# EAGLE library part ARDUINOPROMINI5V328 (library arduino)
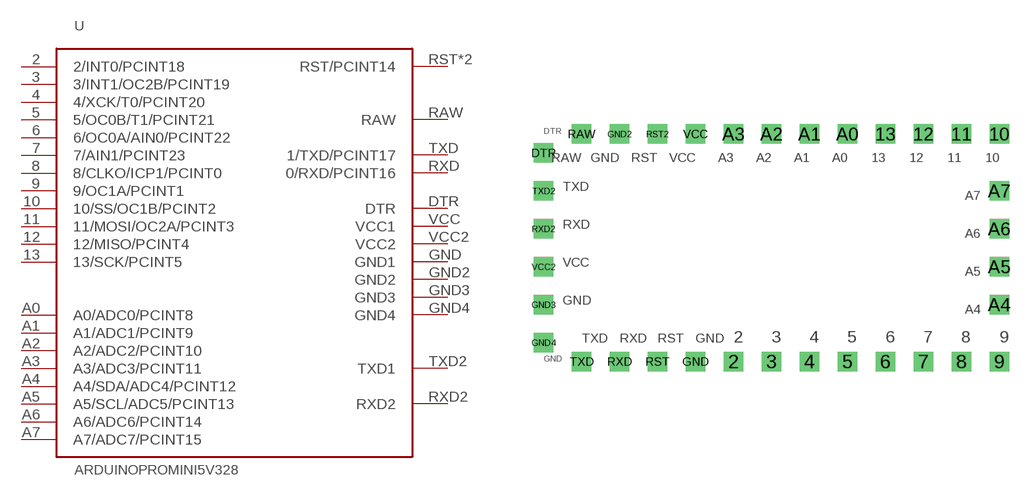
[diagram p1: symbol with the pads of ARDUINOMINIPRO5V328; footprint ARDUINOMINIPRO5V328]

Designator prefix -

## ARDUINOPROMINI5V328  [ARDUINOMINIPRO5V328]
2  2/INT0/PCINT18
3  3/INT1/OC2B/PCINT19
4  4/XCK/T0/PCINT20
5  5/OC0B/T1/PCINT21
6  6/OC0A/AIN0/PCINT22
7  7/AIN1/PCINT23
8  8/CLKO/ICP1/PCINT0
9  9/OC1A/PCINT1
10  10/SS/OC1B/PCINT2
11  11/MOSI/OC2A/PCINT3
12  12/MISO/PCINT4
13  13/SCK/PCINT5
A0  A0/ADC0/PCINT8
A1  A1/ADC1/PCINT9
A2  A2/ADC2/PCINT10
A3  A3/ADC3/PCINT11
A4  A4/SDA/ADC4/PCINT12
A5  A5/SCL/ADC5/PCINT13
A6  A6/ADC6/PCINT14
A7  A7/ADC7/PCINT15
DTR  DTR
GND  GND1  nc
GND2  GND2  nc
GND3  GND3  nc
GND4  GND4  nc
RAW  RAW  out
RST  RST/PCINT14
RST2  RST/PCINT14
RXD  0/RXD/PCINT16
RXD2  RXD2
TXD  1/TXD/PCINT17
TXD2  TXD1
VCC  VCC1  pwr
VCC2  VCC2  pwr

## Footprint ARDUINOMINIPRO5V328 (pad centres in mm)
drill 0.8 square: 2 -3.81,-3.81; 3 -1.27,-3.81; 4 1.27,-3.81; 5 3.81,-3.81; 6 6.35,-3.81; 7 8.89,-3.81; 8 11.43,-3.81; 9 13.97,-3.81; 10 13.97,11.43; 11 11.43,11.43; 12 8.89,11.43; 13 6.35,11.43; A0 3.81,11.43; A1 1.27,11.43; A2 -1.27,11.43; A3 -3.81,11.43; A4 13.97,0; A5 13.97,2.54; A6 13.97,5.08; A7 13.97,7.62; DTR -16.51,10.16; GND -6.35,-3.81; GND2 -11.43,11.43; GND3 -16.51,0; GND4 -16.51,-2.54; RAW -13.97,11.43; RST -8.89,-3.81; RST2 -8.89,11.43; RXD -11.43,-3.81; RXD2 -16.51,5.08; TXD -13.97,-3.81; TXD2 -16.51,7.62; VCC -6.35,11.43; VCC2 -16.51,2.54